# EAGLE library part CONNECTOR16X1_33-48 (library harrison)
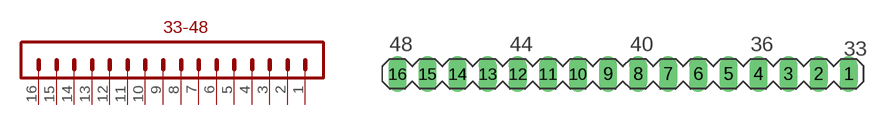
[diagram p15: symbol with the pads of CONNECTOR16X1_33-48; footprint CONNECTOR16X1_33-48]

Designator prefix -

## CONNECTOR16X1_33-48  [CONNECTOR16X1_33-48]
1  P$1  pas
2  P$2  pas
3  P$3  pas
4  P$4  pas
5  P$5  pas
6  P$6  pas
7  P$7  pas
8  P$8  pas
9  P$9  pas
10  P$10  pas
11  P$11  pas
12  P$12  pas
13  P$13  pas
14  P$14  pas
15  P$15  pas
16  P$16  pas

## Footprint CONNECTOR16X1_33-48 (pad centres in mm)
drill 1.016 long: 1 17.78,0.635; 2 15.24,0.635; 3 12.7,0.635; 4 10.16,0.635; 5 7.62,0.635; 6 5.08,0.635; 7 2.54,0.635; 8 0,0.635; 9 -2.54,0.635; 10 -5.08,0.635; 11 -7.62,0.635; 12 -10.16,0.635; 13 -12.7,0.635; 14 -15.24,0.635; 15 -17.78,0.635; 16 -20.32,0.635